# EAGLE library part CD4050BE_HEX_BFFER (library DAQTEST)
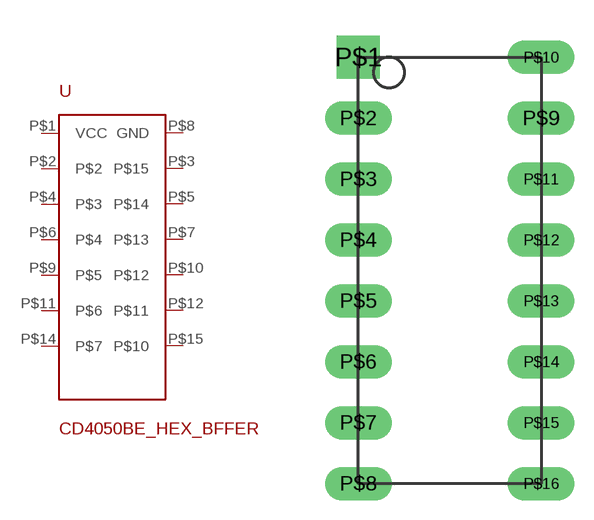
[diagram p1: symbol with the pads of DIP16; footprint DIP16]

Designator prefix -

## CD4050BE_HEX_BFFER  [DIP16]
P$1  VCC
P$2  P$2
P$3  P$15
P$4  P$3
P$5  P$14
P$6  P$4
P$7  P$13
P$8  GND
P$9  P$5
P$10  P$12
P$11  P$6
P$12  P$11
P$14  P$7
P$15  P$10

## Footprint DIP16 (pad centres in mm)
drill 0.889 pad 1.778 square: P$1 -3.81,8.89
drill 0.889 long: P$2 -3.81,6.35; P$3 -3.81,3.81; P$4 -3.81,1.27; P$5 -3.81,-1.27; P$6 -3.81,-3.81; P$7 -3.81,-6.35; P$8 -3.81,-8.89; P$9 3.81,6.35; P$10 3.81,8.89; P$11 3.81,3.81; P$12 3.81,1.27; P$13 3.81,-1.27; P$14 3.81,-3.81; P$15 3.81,-6.35; P$16 3.81,-8.89